# EAGLE library part NTB0102 (library Domino)
Dual supply translating transceiver; auto direction sensing; 3-state
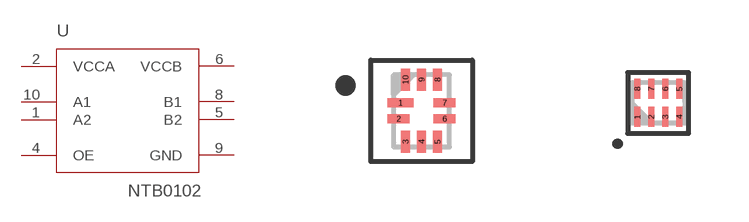
[diagram p4: symbol with the pads of XQFN-10; footprints XQFN-10, SOT1089]

Designator prefix U

## NTB0102GU  [XQFN-10]
1  A2
2  VCCA  sup
4  OE  in
5  B2
6  VCCB  sup
8  B1
9  GND  sup
10  A1

## NTB0102GF  [SOT1089]
1  B2
2  GND  sup
3  VCCA  sup
4  A2
5  A1
6  OE  in
7  VCCB  sup
8  B1

## Footprint XQFN-10 (pad centres in mm)
Plastic Extremely Thin Quad Flat Package (XQFN), no leads, 10 terminals, 1.4 x 1.8 mm Body
smd 0.65 x 0.22: 1 -0.525,0.2
smd 0.55 x 0.22: 2 -0.575,-0.2; 6 0.575,-0.2; 7 0.575,0.2
smd 0.22 x 0.55: 3 -0.4,-0.775; 4 0,-0.775; 5 0.4,-0.775; 8 0.4,0.775; 9 0,0.775; 10 -0.4,0.775

## Footprint SOT1089 (pad centres in mm)
Small Outline Transistor (SOT1089), 8 Pins, 1.35x1.00 mm Body
smd 0.15 x 0.5: 1 -0.525,-0.35; 2 -0.175,-0.35; 3 0.175,-0.35; 4 0.525,-0.35; 5 0.525,0.35; 6 0.175,0.35; 7 -0.175,0.35; 8 -0.525,0.35